# Altium footprint library CN_DIN41612C_Harting_09_03_264_7825.PcbLib: 1 footprints
Each footprint in its own frame and in the unit in brackets; x right, y up, seen from the top. Pads: shape width x height; smd on the part's side, far side on the other; paste and mask are expansions set on the pad; w line width, h text height; cw(c..) or ccw(c..) is an arc to the next point about the centre after c.
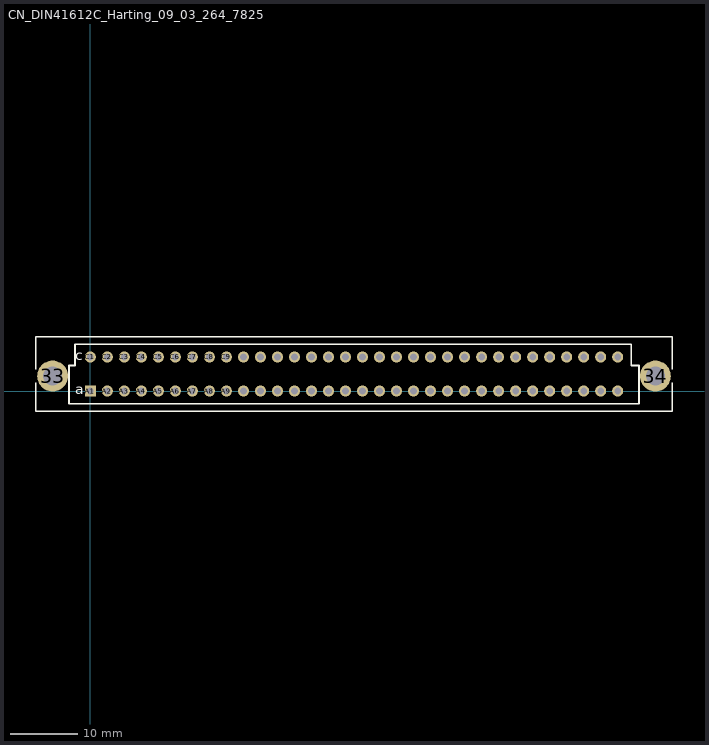
[diagram p0: the footprint, top view; thin cyan lines are the x and y axes]

## CN_DIN41612C_Harting_09_03_264_7825 [mm] "Connector; DIN 41612, Type C, Thru-Hole; Rows a+c, 64 Position; Vertical"
height 11.6
pads (66):
  round 4.6 hole 2.8: 33(-5.63,2.24) 34(84.37,2.24)
  rect 1.65x1.65 hole 1: A1(0,0)
  round 1.65 hole 1: A2(2.54,0) A3(5.08,0) A4(7.62,0) A5(10.16,0) A6(12.7,0) A7(15.24,0) A8(17.78,0) A9(20.32,0) A10(22.86,0) A11(25.4,0) A12(27.94,0) A13(30.48,0) A14(33.02,0) A15(35.56,0) A16(38.1,0) A17(40.64,0) A18(43.18,0) A19(45.72,0) A20(48.26,0) A21(50.8,0) A22(53.34,0) A23(55.88,0) A24(58.42,0) A25(60.96,0) A26(63.5,0) A27(66.04,0) A28(68.58,0) A29(71.12,0) A30(73.66,0) A31(76.2,0) A32(78.74,0) C1(0,5.08) C2(2.54,5.08) C3(5.08,5.08) C4(7.62,5.08) C5(10.16,5.08) C6(12.7,5.08) C7(15.24,5.08) C8(17.78,5.08) C9(20.32,5.08) C10(22.86,5.08) C11(25.4,5.08) C12(27.94,5.08) C13(30.48,5.08) C14(33.02,5.08) C15(35.56,5.08) C16(38.1,5.08) C17(40.64,5.08) C18(43.18,5.08) C19(45.72,5.08) C20(48.26,5.08) C21(50.8,5.08) C22(53.34,5.08) C23(55.88,5.08) C24(58.42,5.08) C25(60.96,5.08) C26(63.5,5.08) C27(66.04,5.08) C28(68.58,5.08) C29(71.12,5.08) C30(73.66,5.08) C31(76.2,5.08) C32(78.74,5.08)
Top Overlay:
  lines w0.2: -8.13,1.24 -8.13,-3.01 86.87,-3.01 86.87,1.24 ; -8.13,3.24 -8.13,8.09 86.87,8.09 86.87,3.24
  lines w0.254: -3.175,-1.905 81.915,-1.905 81.915,3.81 80.772,3.81 80.772,6.985 -2.286,6.985 -2.286,3.81 -3.175,3.81 -3.175,-1.905
  text "c" at -2.21,4.58 h1.5
  text "a" at -2.21,-0.5 h1.5
3D body: height 11.6, standoff -4.5, extent -8.08,-2.71 86.82,7.79